# Altium schematic symbol library SPECTR.Schlib: 1 symbol
Pins are listed as number, name and electrical type; pins without a type are passive.

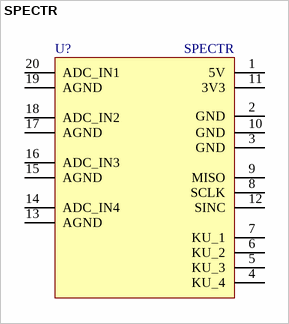
[diagram p0: symbol SPECTR]

## SPECTR
designator U?
ADC-block designed by PV; Назначение: Счетверенный АЦП; Наименование: СПЕКТР №7
footprint SPECTR (4x ADC-block)
pins: 1 5V, 2 GND, 3 GND, 4 KU_4, 5 KU_3, 6 KU_2, 7 KU_1, 8 SCLK, 9 MISO, 10 GND, 11 3V3, 12 SINC, 13 AGND, 14 ADC_IN4, 15 AGND, 16 ADC_IN3, 17 AGND, 18 ADC_IN2, 19 AGND, 20 ADC_IN1